# Altium schematic symbol library DISCRETE-PROTECTION.SchLib: 25 symbols
Pins are listed as number, name and electrical type; pins without a type are passive.

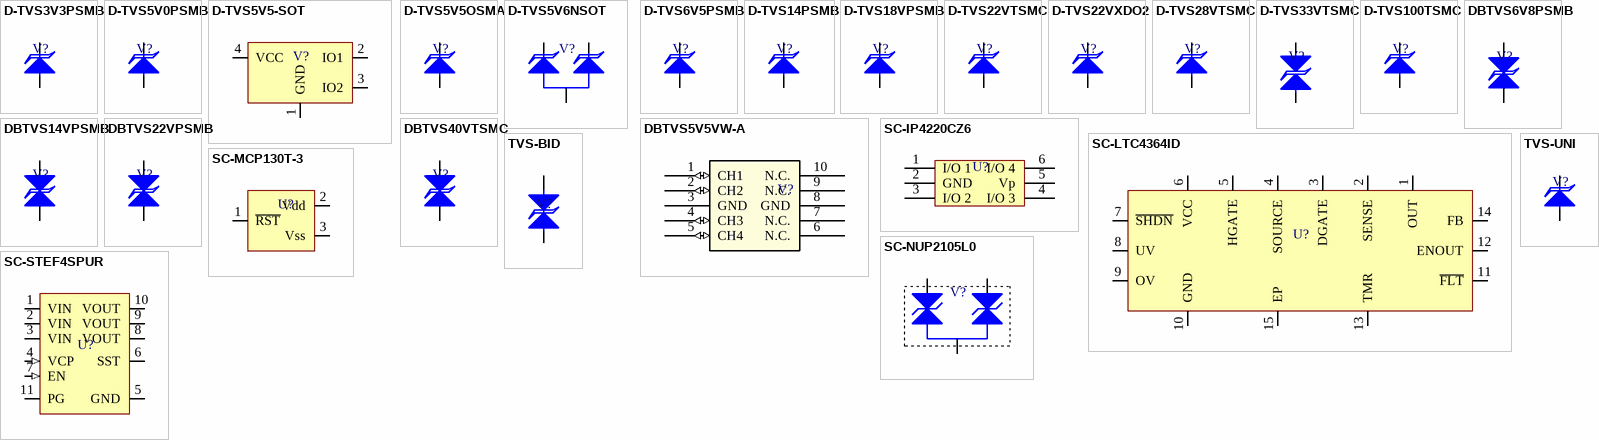
[diagram p0: symbols D-TVS3V3PSMB to TVS-UNI]

## D-TVS3V3PSMB
designator V?
10.3V Clamp 200A (8/20µs) Ipp Tvs Diode Surface Mount SMB (DO-214AA); Manufacturer Part Number: SMLVT3V3; Manufacturer: STMicroelectronics; Working Temperature: -25°C ~ 175°C (TJ); Temperature Coefficient: NC; Short Description: TVS DIODE 3.3VWM 10.3VC SMB; Power: 600W; Ratings: REACH, ROHS3; Value: 3.3V; Mounting: SMT; Type: TVS; Frequency: *; Alternate Part Number 1: *; Alternate Part Number 2: *; Tolerance: NC; Current: 200A; Revision Date: 04/08/21; Package Reference: DO-214AA; Voltage: 10.3V
footprint DO-214AA
pins: 1 K, 2 A

## D-TVS5V0PSMB
designator V?
9.2V Clamp 68A Ipp Tvs Diode Surface Mount SMB (DO-214AA); Manufacturer Part Number: SMBJ5.0A-TR; Manufacturer: STMicroelectronics; Working Temperature: -55°C ~ 150°C (TJ); Temperature Coefficient: NC; Short Description: TVS DIODE 5VWM 9.2VC SMB; Power: 600W; Ratings: REACH, ROHS3; Value: 5V; Mounting: SMT; Type: TVS; Frequency: *; Alternate Part Number 1: *; Alternate Part Number 2: *; Tolerance: NC; Current: 68A; Revision Date: 04/08/21; Package Reference: DO-214AA; Voltage: 9.2V
footprint DO-214AA
pins: 1 K, 2 A

## D-TVS5V5-SOT
designator V?
Ultra low capacitance double rail-to-rail ESD protection diode; Manufacturer Part Number: PRTR5V0U2AX,235; Manufacturer: Nexperia USA Inc.; Working Temperature: -40°C ~ 125°C (TA); Temperature Coefficient: NC; Short Description: TVS DIODE 5.5VWM SOT143B; Ratings: REACH, ROHS3, AEC-Q101; Voltage: 5.5V; Value: NC; Mounting: SMT; Power: NC; Type: Diode; Frequency: *; Alternate Part Number 1: *; Alternate Part Number 2: *; Tolerance: NC; Current: NC; Revision Date: 04/08/21; Package Reference: TO-253-4
footprint SOT-143B
pins: 1 GND, 2 IO1, 3 IO2, 4 VCC

## D-TVS5V5OSMA
designator V?
10.8V Clamp 38A Ipp Tvs Diode Surface Mount SMA (DO-214AC); Manufacturer Part Number: P4SMA6.8_R1_00001; Manufacturer: Panjit International Inc.; Working Temperature: -55°C ~ 175°C (TJ); Temperature Coefficient: NC; Short Description: TVS DIODE 5.5VWM 10.8VC DO214AC; Power: 400W; Ratings: REACH, ROHS3; Value: 5.5V; Mounting: SMT; Type: TVS; Frequency: *; Alternate Part Number 1: *; Alternate Part Number 2: *; Tolerance: NC; Current: 38A; Revision Date: 03/08/22; Package Reference: DO-214AA; Voltage: 10.8V
footprint DO-214AC-SMALL (Manufacturer: Vishay)
pins: 1 K, 2 A

## D-TVS5V6NSOT
designator V?
8V Clamp 3A Ipp Tvs Diode Surface Mount SOT-23; Manufacturer Part Number: MMBZ5V6AL-7-F; Manufacturer: Diodes Incorporated; Working Temperature: -65°C ~ 150°C (TJ); Temperature Coefficient: NC; Short Description: TVS DIODE 3VWM 8VC SOT23; Power: 24W; Ratings: REACH, ROHS3; Value: 3V; Mounting: SMT; Type: TVS; Frequency: *; Alternate Part Number 1: *; Alternate Part Number 2: *; Tolerance: NC; Current: 3A; Revision Date: 04/08/21; Package Reference: SOT-23-3; Voltage: 8V
footprint SOT-23-3
pins: 1 K, 2 K, 3 A

## D-TVS6V5PSMB
designator V?
11.2V Clamp 53.6A Ipp Tvs Diode Surface Mount DO-214AA (SMB); Manufacturer Part Number: SMBJ6.5A-TP; Manufacturer: Micro Commercial Co; Working Temperature: -55°C ~ 175°C (TJ); Temperature Coefficient: NC; Short Description: TVS DIODE 6.5VWM 11.2VC DO214AA; Power: 600W; Ratings: REACH, ROHS3; Value: 6.5V; Mounting: SMT; Type: TVS; Frequency: *; Alternate Part Number 1: *; Alternate Part Number 2: *; Tolerance: NC; Current: 53.6A; Revision Date: 29/11/21; Package Reference: DO-214AA; Voltage: 11.2V
footprint DO-214AA
pins: 1 K, 2 A

## D-TVS14PSMB
designator V?
23.2V Clamp 25.9A Ipp Tvs Diode Surface Mount SMB (DO-214AA); Manufacturer Part Number: SMBJ14A-Q; Manufacturer: Bourns Inc.; Working Temperature: -55°C ~ 150°C (TJ); Temperature Coefficient: NC; Short Description: TVS DIODE 14VWM 23.2VC SMB; Power: 600W; Ratings: ROHS3; Value: 14V; Mounting: SMT; Type: TVS; Frequency: *; Alternate Part Number 1: *; Alternate Part Number 2: *; Tolerance: NC; Current: 25.9A; Revision Date: 04/08/21; Package Reference: DO-214AA; Voltage: 23.2V
footprint DO-214AA
pins: 1 K, 2 A

## D-TVS18VPSMB
designator V?
29.2V Clamp 20.55A Ipp Tvs Diode Surface Mount SMB; Manufacturer Part Number: SMBJ18A; Manufacturer: AVX Corporation; Working Temperature: -55°C ~ 150°C (TJ); Temperature Coefficient: NC; Short Description: TVS DIODE 18VWM 29.2VC SMB; Power: 600W; Ratings: REACH, ROHS3; Value: 18V; Mounting: SMT; Type: TVS; Frequency: *; Alternate Part Number 1: *; Alternate Part Number 2: *; Tolerance: NC; Current: 20.55A; Revision Date: 04/08/21; Package Reference: DO-214AA; Voltage: 29.2V
footprint DO-214AA
pins: 1 K, 2 A

## D-TVS22VTSMC
designator V?
35.5V Clamp 42.3A Ipp Tvs Diode Surface Mount DO-214AB (SMCJ); Manufacturer Part Number: SMCJ22A; Manufacturer: Littelfuse Inc.; Working Temperature: -55°C ~ 150°C; Temperature Coefficient: NC; Short Description: TVS DIODE 22VWM 35.5VC DO214AB; Power: 1500W; Ratings: ROHS3; Value: 22V; Mounting: SMT; Type: TVS; Frequency: *; Alternate Part Number 1: *; Alternate Part Number 2: *; Tolerance: NC; Current: 42.3A; Revision Date: 04/08/21; Package Reference: DO-214AB; Voltage: 35.5V
footprint DO-214AB
pins: 1 K, 2 A

## D-TVS22VXDO2
designator V?
35.5V Clamp 186A Ipp Tvs Diode Surface Mount DO-218AB; Manufacturer Part Number: SM8S22A-HE3/2D; Manufacturer: Vishay General Semiconductor - Diodes Division; Working Temperature: -55°C ~ 175°C (TJ); Temperature Coefficient: NC; Short Description: TVS DIODE 22VWM 35.5VC DO218AB; Power: 6600W; Ratings: REACH, ROHS3; Value: 22V; Mounting: SMT; Type: TVS; Frequency: *; Alternate Part Number 1: *; Alternate Part Number 2: *; Tolerance: NC; Current: 186A; Revision Date: 04/08/21; Package Reference: DO-218AB; Voltage: 35.5V
footprint DO-218AB (TVS 8W 27V UNIDIR DO-218AB)
pins: 1 K, 2 A

## D-TVS28VTSMC
designator V?
45.4V Clamp 33.1A Ipp Tvs Diode Surface Mount DO-214AB (SMCJ); Manufacturer Part Number: SMCJ28A; Manufacturer: Littelfuse Inc.; Working Temperature: -55°C ~ 150°C (TJ); Temperature Coefficient: NC; Short Description: TVS DIODE 28VWM 45.4VC DO214AB; Power: 1500W; Ratings: ROHS3; Value: 28V; Mounting: SMT; Type: TVS; Frequency: *; Alternate Part Number 1: *; Alternate Part Number 2: *; Tolerance: NC; Current: 33.1A; Revision Date: 04/08/21; Package Reference: DO-214AB; Voltage: 45.4V
footprint DO-214AB
pins: 1 K, 2 A

## D-TVS33VTSMC
designator V?
53.3V Clamp 28.1A Ipp Tvs Diode Surface Mount SMC; Manufacturer Part Number: SMCJ33CA-13-F; Manufacturer: Diodes Incorporated; Working Temperature: -55°C ~ 150°C (TJ); Temperature Coefficient: NC; Short Description: TVS DIODE 33VWM 53.3VC SMC; Power: 1500W; Ratings: ROHS3; Value: 33V; Mounting: SMT; Type: TVS; Frequency: *; Alternate Part Number 1: *; Alternate Part Number 2: *; Tolerance: NC; Current: 28.1A; Revision Date: 04/08/21; Package Reference: DO-214AB; Voltage: 53.3V
footprint DO-214AB
pins: 1 K, 2 A

## D-TVS100TSMC
designator V?
162V Clamp 9.3A Ipp Tvs Diode Surface Mount DO-214AB (SMC); Manufacturer Part Number: SMCJ100A; Manufacturer: Bourns Inc.; Working Temperature: -55°C ~ 150°C; Temperature Coefficient: NC; Short Description: TVS DIODE 100VWM 162VC SMC; Power: 1500W; Ratings: REACH, ROHS3; Value: 100V; Mounting: SMT; Type: TVS; Frequency: *; Alternate Part Number 1: *; Alternate Part Number 2: *; Tolerance: NC; Current: 9.3A; Revision Date: 04/08/21; Package Reference: DO-214AB; Voltage: 162V
footprint DO-214AB
pins: 1 K, 2 A

## DBTVS5V5VW-A
designator V?, comment PESD4USB5B-TTS  (value not drawn)
Ipp Tvs Diode 5.5V (Typ) Clamp 7A (8/20µs), Wettable Flank DFN2510D-10; Manufacturer Part Number: PESD4USB5B-TTSX; Manufacturer: Nexperia USA Inc.; Working Temperature: -65°C ~ 150°C (TJ); Temperature Coefficient: NC; Short Description: TVS Diode 5.5V Clamp 7A (8/20µs); Power: 38W; Ratings: REACH, ROHS3; Current: 7A (8/20us); Mounting: SMT; Type: TVS; Frequency: *; Alternate Part Number 1: *; Alternate Part Number 2: *; Tolerance: NC; Revision Date: 15/03/2021; Package Reference: 10-WFDFN (SOT1165D); Voltage: 5.5V; Value: *
footprint SOT1165D (TVS ARRAY - PESD4USB5B-TTS)
pins: 1 CH1 (io), 2 CH2 (io), 3 GND, 4 CH3 (io), 5 CH4 (io), 6 N.C., 7 N.C., 8 GND, 9 N.C., 10 N.C.

## DBTVS6V8PSMB
designator V?
10.5V Clamp 58.1A Ipp Tvs Diode Surface Mount SMB (DO-214AA); Manufacturer Part Number: P6SMB6.8CA; Manufacturer: Bourns Inc.; Working Temperature: -55°C ~ 150°C (TJ); Temperature Coefficient: NC; Short Description: TVS DIODE 5.8VWM 10.5VC DO214AA; Power: 600W; Value: 5.8V; Mounting: SMT; Ratings: *; Type: TVS; Frequency: *; Alternate Part Number 1: *; Alternate Part Number 2: *; Tolerance: NC; Current: 58.1A; Revision Date: 04/08/21; Package Reference: DO-214AA; Voltage: 10.5V
footprint DO-214AA
pins: 1 K, 2 A

## DBTVS14VPSMB
designator V?
23.2V Clamp 25.9A Ipp Tvs Diode Surface Mount SMB (DO-214AA); Manufacturer Part Number: SMBJ14CA; Manufacturer: Bourns Inc.; Working Temperature: -55°C ~ 150°C (TJ); Temperature Coefficient: NC; Short Description: TVS DIODE 14VWM 23.2VC SMB; Power: 600W; Ratings: REACH, ROHS3; Value: 14V; Mounting: SMT; Type: TVS; Frequency: *; Alternate Part Number 1: *; Alternate Part Number 2: *; Tolerance: NC; Current: 25.9A; Revision Date: 04/08/21; Package Reference: DO-214AA; Voltage: 23.2V
footprint DO-214AA
pins: 1 K, 2 A

## DBTVS22VPSMB
designator V?
30.6V Clamp 19.6A Ipp Tvs Diode Surface Mount DO-214AA (SMB); Manufacturer Part Number: P6SMB22CA; Manufacturer: Littelfuse; Working Temperature: -65°C ~ 150°C (TJ); Temperature Coefficient: NC; Short Description: TVS DIODE 18.8VWM 30.6VC DO214AA; Power: 600W; Ratings: REACH, ROHS3; Value: 18.8V; Mounting: SMT; Type: TVS; Frequency: *; Alternate Part Number 1: *; Alternate Part Number 2: *; Tolerance: NC; Current: 19.6A; Revision Date: 04/08/21; Package Reference: DO-214AA; Voltage: 30.6V
footprint DO-214AA
pins: 1 K, 2 A

## DBTVS40VTSMC
designator V?
64.5V Clamp 23.3A Ipp Tvs Diode Surface Mount DO-214AB (SMC); Manufacturer Part Number: SMCJ40CA; Manufacturer: Bourns Inc.; Working Temperature: -55°C ~ 150°C; Temperature Coefficient: NC; Short Description: TVS DIODE 40VWM 64.5VC SMC; Power: 1500W; Ratings: REACH, ROHS3; Value: 40V; Mounting: SMT; Type: TVS; Frequency: *; Alternate Part Number 1: *; Alternate Part Number 2: *; Tolerance: NC; Current: 23.3A; Revision Date: 04/08/21; Package Reference: DO-214AB; Voltage: 64.5V
footprint DO-214AB
pins: 1 K, 2 A

## SC-IP4220CZ6
designator U?
Dual USB 2.0 integrated ESD protection; Manufacturer Part Number: IP4220CZ6,125; Manufacturer: Nexperia USA Inc.; Working Temperature: -40°C ~ 85°C (TA); Temperature Coefficient: NC; Short Description: TVS DIODE 5.5VWM 6TSOP; Ratings: REACH, ROHS3; Voltage: 5.5V; Value: NC; Mounting: SMT; Power: NC; Type: TVS; Frequency: *; Alternate Part Number 1: *; Alternate Part Number 2: *; Tolerance: NC; Current: NC; Revision Date: 03/08/21; Package Reference: TSOP-6
footprint SOT-23-6
pins: 1 I/O 1, 2 GND, 3 I/O 2, 4 I/O 3, 5 Vp, 6 I/O 4

## SC-LTC4364ID
designator U?
Surge Stopper with Ideal Diode; Manufacturer Part Number: LTC4364IDE-2#PBF; Manufacturer: Analog Devices Inc.; Working Temperature: –40°C ~ 85°C; Temperature Coefficient: NC; Short Description: IC SURGE STOPPER W/DIODE 14DFN; Ratings: REACH, ROHS3; Voltage: 4 ~ 80V; Value: NC; Mounting: SMT; Power: NC; Type: Monitor; Frequency: *; Alternate Part Number 1: *; Alternate Part Number 2: *; Tolerance: NC; Current: NC; Revision Date: 03/08/21; Package Reference: WFDFN-14; ComponentLink1Description: Datasheet; ComponentLink1URL: https://www.analog.com/media/en/technical-documentation/data-sheets/ltc4364-1-4364-2.pdf
footprint WFDFN-14
pins: 1 OUT, 2 SENSE, 3 DGATE, 4 SOURCE, 5 HGATE, 6 VCC, 7 ~{SHDN}, 8 UV, 9 OV, 10 GND, 11 ~{FLT}, 12 ENOUT, 13 TMR, 14 FB, 15 EP

## SC-MCP130T-3
designator U?
Supervisor Open Drain or Open Collector 1 Channel SOT-23-3; Manufacturer Part Number: MCP130T-315I/TT; Manufacturer: Microchip Technology; Working Temperature: -40°C ~ 85°C (TA); Temperature Coefficient: NC; Short Description: IC SUPERVISOR 1 CHANNEL SOT23-3; Ratings: REACH, ROHS3; Voltage: 3.075V; Value: NC; Mounting: SMT; Power: NC; Type: Active Low; Frequency: *; Alternate Part Number 1: *; Alternate Part Number 2: *; Tolerance: NC; Current: NC; Revision Date: 03/08/21; Package Reference: SOT-23-3; ComponentLink1Description: Datasheet; ComponentLink1URL: https://ww1.microchip.com/downloads/en/DeviceDoc/11184d.pdf
footprint SOT-23-3
pins: 1 ~{RST} (oc), 2 Vdd (power), 3 Vss (power)

## SC-NUP2105L0
designator V?
44V Clamp 8A (8/20µs) Ipp Tvs Diode Surface Mount SOT-23-3 (TO-236); Manufacturer Part Number: NUP2105LT1G; Manufacturer: ON Semiconductor; Working Temperature: -55°C ~ 150°C (TJ); Temperature Coefficient: NC; Short Description: TRANS VOLTAGE SUPPRESSOR DIODE,; Power: 350W; Ratings: NA; Value: 24V; Mounting: SMT; Type: TVS; Frequency: *; Alternate Part Number 1: *; Alternate Part Number 2: *; Tolerance: NC; Current: 8A; Revision Date: 03/08/21; Package Reference: SOT-23-3; Voltage: 44V
footprint SOT-23-3
pins: 1, 2, 3

## SC-STEF4SPUR
designator U?
Electronic Fuse Regulator High-Side 5A 10-DFN (3x3); Manufacturer Part Number: STEF4SPUR; Manufacturer: STMicroelectronics; Working Temperature: -40°C ~ 85°C (TA); Temperature Coefficient: NC; Short Description: IC ELECTRONIC FUSE 10VFDFPN; Ratings: REACH, ROHS3; Voltage: 10V; Value: NC; Mounting: SMT; Power: *; Type: eFuse; Frequency: *; Alternate Part Number 1: *; Alternate Part Number 2: *; Tolerance: NC; Current: 5A; Revision Date: 03/08/21; Package Reference: DFN-10
footprint WFDFN-10
pins: 1 VIN (power), 2 VIN (power), 3 VIN (power), 4 VCP (in), 5 GND (power), 6 SST, 7 EN (in), 8 VOUT (power), 9 VOUT (power), 10 VOUT (power), 11 PG (power)

## TVS-BID
designator V?
Temperature Coefficient: NC; Manufacturer Part Number: *; Working Temperature: *; Mounting: *; Short Description: *; Power: *; Ratings: *; Type: *; Frequency: *; Alternate Part Number 1: *; Alternate Part Number 2: *; Manufacturer: *; Tolerance: NC; Current: *; Revision Date: 04/08/21; Package Reference: *; Voltage: *; Value: *
pins: 1 A1, 2 A2

## TVS-UNI
designator V?
Temperature Coefficient: NC; Manufacturer Part Number: *; Working Temperature: *; Mounting: *; Short Description: *; Power: *; Ratings: *; Type: *; Frequency: *; Alternate Part Number 1: *; Alternate Part Number 2: *; Manufacturer: *; Tolerance: NC; Current: *; Revision Date: *; Package Reference: *; Voltage: *; Value: *
pins: 1 K, 2 A